# EAGLE library part PCA9685 (library everykey)
16 channel 12 bit I2C PWM controller with I2C-programmable frequency. Mainly targeted at LED dimming, but can be used for other PWM uses, such as Servo control.
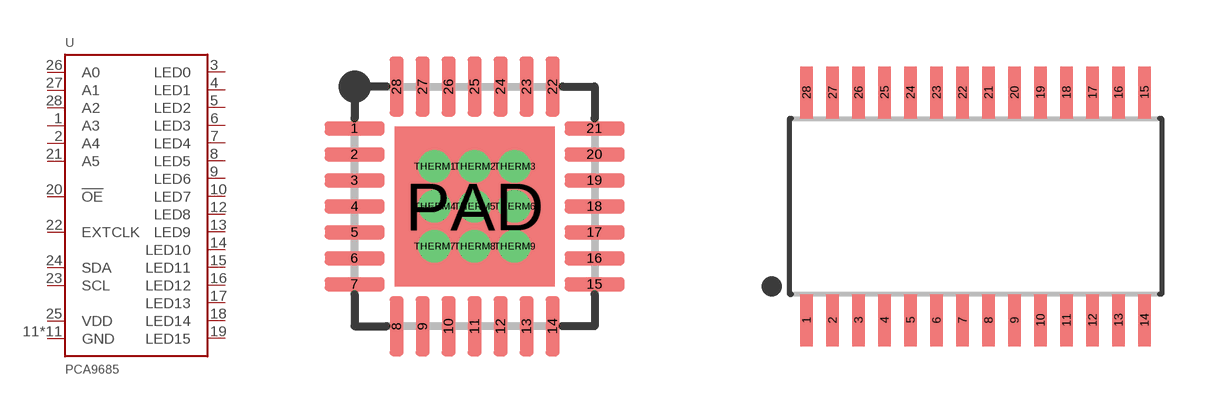
[diagram p62: symbol with the pads of HVQFN28-0.65-EP-VIAS; footprints HVQFN28-0.65-EP-VIAS, TSSOP28-0.65]

Designator prefix -

## PCA9685BS  [HVQFN28-0.65-EP-VIAS]
1  A3  in
2  A4  in
3  LED0  out
4  LED1  out
5  LED2  out
6  LED3  out
7  LED4  out
8  LED5  out
9  LED6  out
10  LED7  out
11  GND  pwr
12  LED8  out
13  LED9  out
14  LED10  out
15  LED11  out
16  LED12  out
17  LED13  out
18  LED14  out
19  LED15  out
20  !OE  in
21  A5  in
22  EXTCLK  in
23  SCL  in
24  SDA
25  VDD  pwr
26  A0  in
27  A1  in
28  A2  in
PAD  GND  pwr
THERM1  GND  pwr
THERM2  GND  pwr
THERM3  GND  pwr
THERM4  GND  pwr
THERM5  GND  pwr
THERM6  GND  pwr
THERM7  GND  pwr
THERM8  GND  pwr
THERM9  GND  pwr

## PCA9685PW  [TSSOP28-0.65]
1  A0  in
2  A1  in
3  A2  in
4  A3  in
5  A4  in
6  LED0  out
7  LED1  out
8  LED2  out
9  LED3  out
10  LED4  out
11  LED5  out
12  LED6  out
13  LED7  out
14  GND  pwr
15  LED8  out
16  LED9  out
17  LED10  out
18  LED11  out
19  LED12  out
20  LED13  out
21  LED14  out
22  LED15  out
23  !OE  in
24  A5  in
25  EXTCLK  in
26  SCL  in
27  SDA
28  VDD  pwr

## Footprint HVQFN28-0.65-EP-VIAS (pad centres in mm)
HVQFN package, 28 pads, 6x6mm, exposed pad.
smd 1.5 x 0.35: 1 -3,1.95; 2 -3,1.3; 3 -3,0.65; 4 -3,0; 5 -3,-0.65; 6 -3,-1.3; 7 -3,-1.95; 15 3,-1.95; 16 3,-1.3; 17 3,-0.65; 18 3,0; 19 3,0.65; 20 3,1.3; 21 3,1.95
smd 0.35 x 1.5: 8 -1.95,-3; 9 -1.3,-3; 10 -0.65,-3; 11 0,-3; 12 0.65,-3; 13 1.3,-3; 14 1.95,-3; 22 1.95,3; 23 1.3,3; 24 0.65,3; 25 0,3; 26 -0.65,3; 27 -1.3,3; 28 -1.95,3
smd 4 x 4: PAD 0,0
drill 0.3: THERM1 -1,1; THERM2 0,1; THERM3 1,1; THERM4 -1,0; THERM5 0,0; THERM6 1,0; THERM7 -1,-1; THERM8 0,-1; THERM9 1,-1

## Footprint TSSOP28-0.65 (pad centres in mm)
Thin shrunk small outline package, 28 pads, 0.65 pitch, 4.4mm body width
smd 0.31 x 1.3: 1 -4.225,-2.85; 2 -3.575,-2.85; 3 -2.925,-2.85; 4 -2.275,-2.85; 5 -1.625,-2.85; 6 -0.975,-2.85; 7 -0.325,-2.85; 8 0.325,-2.85; 9 0.975,-2.85; 10 1.625,-2.85; 11 2.275,-2.85; 12 2.925,-2.85; 13 3.575,-2.85; 14 4.225,-2.85; 15 4.225,2.85; 16 3.575,2.85; 17 2.925,2.85; 18 2.275,2.85; 19 1.625,2.85; 20 0.975,2.85; 21 0.325,2.85; 22 -0.325,2.85; 23 -0.975,2.85; 24 -1.625,2.85; 25 -2.275,2.85; 26 -2.925,2.85; 27 -3.575,2.85; 28 -4.225,2.85